# EAGLE library part BEAGLEBONEBLACK_JTAG (library BeagleBone_Black_Wireless)
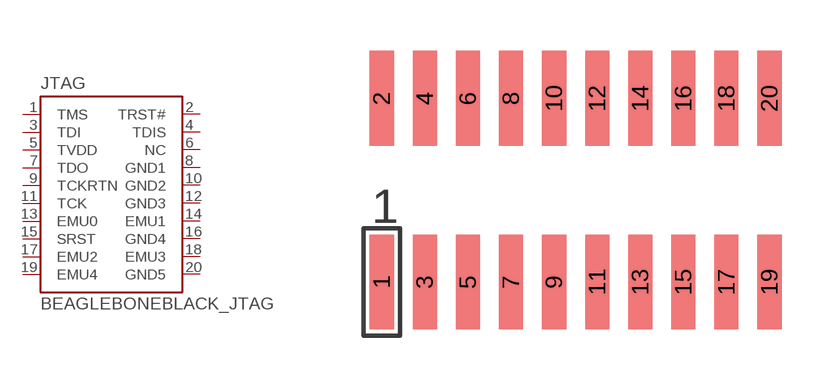
[diagram p15: symbol with the pads of BEAGLEBONEBLACK_JTAG; footprint BEAGLEBONEBLACK_JTAG]

Designator prefix JTAG

## BEAGLEBONEBLACK_JTAG  [BEAGLEBONEBLACK_JTAG]
1  TMS
2  TRST#
3  TDI
4  TDIS
5  TVDD
6  NC
7  TDO
8  GND1
9  TCKRTN
10  GND2
11  TCK
12  GND3
13  EMU0
14  EMU1
15  SRST
16  GND4
17  EMU2
18  EMU3
19  EMU4
20  GND5

## Footprint BEAGLEBONEBLACK_JTAG (pad centres in mm)
smd 0.711 x 2.794: 1 -5.715,-2.705; 2 -5.715,2.705; 3 -4.445,-2.705; 4 -4.445,2.705; 5 -3.175,-2.705; 6 -3.175,2.705; 7 -1.905,-2.705; 8 -1.905,2.705; 9 -0.635,-2.705; 10 -0.635,2.705; 11 0.635,-2.705; 12 0.635,2.705; 13 1.905,-2.705; 14 1.905,2.705; 15 3.175,-2.705; 16 3.175,2.705; 17 4.445,-2.705; 18 4.445,2.705; 19 5.715,-2.705; 20 5.715,2.705